# Altium schematic symbol library AmpClick.SchLib: 19 symbols
Pins are listed as number, name and electrical type; pins without a type are passive.

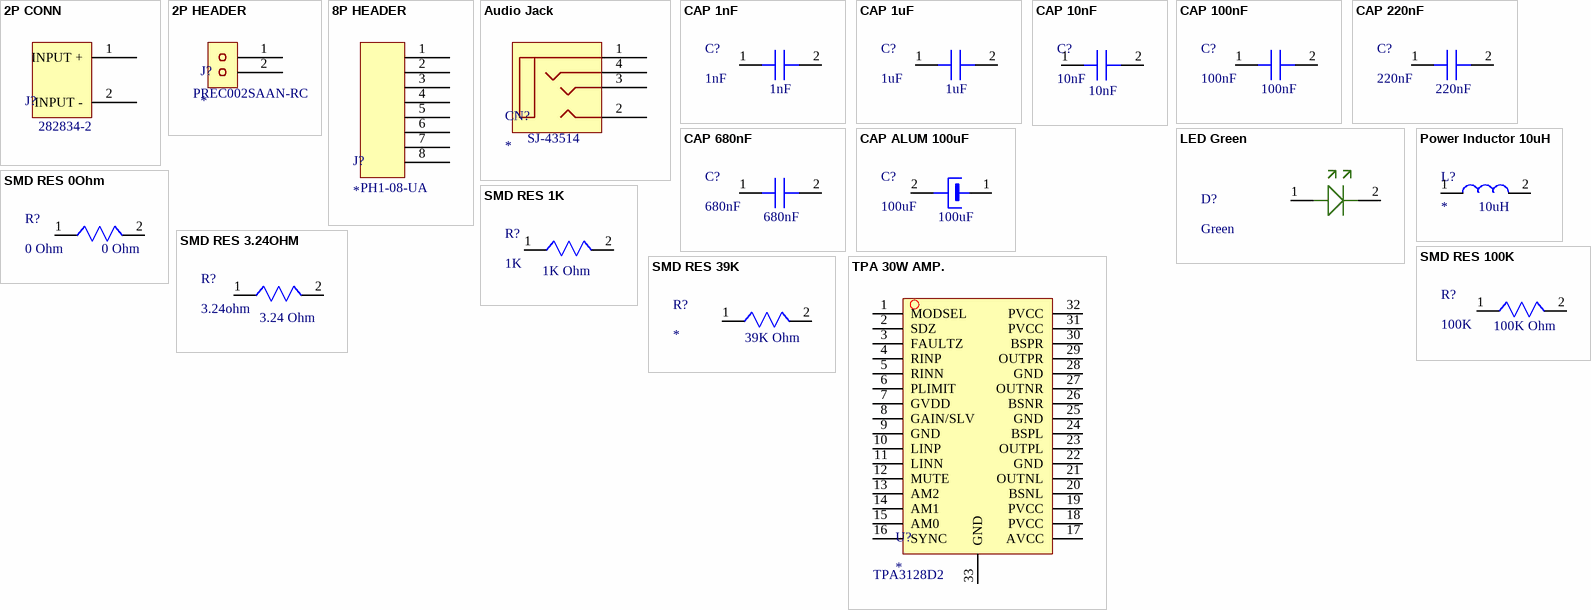
[diagram p0: symbols 2P CONN to TPA 30W AMP.]

## 2P CONN
designator J?  Order Number: 282834-2
2 Position Connector; Manufacturer: TE Connectivity AMP Connectors; Price: $1.85; Mounting Type: Through Hole
footprint 2P CONN 2.54mm
pins: 1 INPUT +, 2 INPUT -

## 2P HEADER
designator J?  Order Number: PREC002SAAN-RC
2 Position Header; Manufacturer: Sullins Connector Solutions; Mounting Type: Through Hole; Price: $0.06
footprint 2POS HEADER
pins: 1 13, 2 14

## 8P HEADER
designator J?  Order Number: PH1-08-UA
8 Position Header; Manufacturer: Adam Tech; Price: $0.17; Mounting Type: Through Hole
footprint 8POS HEADER
pins: 1 5, 2 6, 3 7, 4 8, 5 9, 6 10, 7 11, 8 12

## Audio Jack
designator CN?  Order Number: SJ-43514
4 Pin Conductor Audio Jack; Manufacturer: CUI Devices; Mounting Type: SMD; Price: $1.06
footprint Audio Jack
pins: 1 5, 2 8, 3 7, 4 6

## CAP 1nF
designator C?, comment 1nF
Capacitor; Manufacturer: Kemet; Order Number: C0603C102K3RACTU; Price: $0.10; Mounting Type: SMD-0603; Value: 1nF
footprint CAP 1nF
pins: 1 PVCC, 2 PVCC

## CAP 1uF
designator C?, comment 1uF
Capacitor; Manufacturer: Murata Electronics; Order Number: GRM21BR71C105KA01L; Price: $0.19; Mounting Type: SMD-0805; Value: 1uF
footprint CAP 1uF
pins: 1 PVCC, 2 PVCC

## CAP 10nF
designator C?, comment 10nF
Capacitor; Manufacturer: Samsung; Order Number: CL10B103JB8NNNC; Price: $0.1; Mounting Type: SMD-0603; Value: 10nF
footprint CAP 10nF
pins: 1 PVCC, 2 PVCC

## CAP 100nF
designator C?, comment 100nF
Capacitor; Manufacturer: Samsung; Order Number: CL10B104KO8NNNC; Price: $0.10; Mounting Type: SMD-0603; Value: 100nF
footprint CAP 100nF
pins: 1 PVCC, 2 PVCC

## CAP 220nF
designator C?, comment 220nF
Capacitor; Manufacturer: Samsung; Order Number: CL21B224KBFSFNE; Price: $0.1; Mounting Type: SMD-0805; Value: 220nF
footprint CAP 220nF
pins: 1 PVCC, 2 PVCC

## CAP 680nF
designator C?, comment 680nF
Capacitor; Manufacturer: KEMET; Order Number: C0805C684K5REC7210; Price: $0.28; Mounting Type: SMD-0805; Value: 680nF
footprint CAP 680nF
pins: 1 PVCC, 2 PVCC

## CAP ALUM 100uF
designator C?, comment 100uF
Capacitor; Manufacturer: Vishay / BC Components; Order Number: MAL215099702E3; Price: $2.25; Mounting Type: SMD; Value: 100uF
footprint CAP ALUM 100uF
pins: 1 PVCC, 2 PVCC

## LED Green
designator D?, comment Green
LED Green; Manufacturer: Everlight Electronics Co Ltd; Order Number: QTLP601C4TR; Price: $0.34; Mounting Type: SMD-0603
footprint LED Green
pins: 1 PVCC, 2 PVCC

## Power Inductor 10uH
designator L?  value 10uH
Inductor; Manufacturer: Chilisin Electronics Corp.; Order Number: BWVS00505040100M00; Price: $0,18; Mounting Type: SMD
footprint Power Inductor
pins: 1 15, 2

## SMD RES 0Ohm
designator R?, comment 0 Ohm
Resistor; Manufacturer: Panasonic Electronic; Order Number: ERJ-6GEY0R00V; Price: $0.10; Mounting Type: SMD 0805; Value: 0 Ohm
footprint SMD RES 0Ohm
pins: 1 0, 2 1

## SMD RES 1K
designator R?, comment 1K  value 1K Ohm
Resistor; Manufacturer: Panasonic Electronic; Order Number: ERJ-6ENF1001V; Price: $0.10; Mounting Type: SMD-0805
footprint SMD RES 1K
pins: 1 0, 2 1

## SMD RES 3.24OHM
designator R?, comment 3.24ohm  value 3.24 Ohm
Resistor; Manufacturer: Vishay Dale; Order Number: CRCW08053R24FKEA; Price: $0.10; Mounting Type: SMD-0805
footprint SMD RES 3.24ohm
pins: 1 0, 2 1

## SMD RES 39K
designator R?  value 39K Ohm
Resistor; Manufacturer: Panasonic Electronic; Order Number: ERJ-6ENF3902V; Price: $0.10; Mounting Type: SMD-0805
footprint SMD RES 39K
pins: 1 0, 2 1

## SMD RES 100K
designator R?, comment 100K  value 100K Ohm
Resistor; Manufacturer: Panasonic Electronic; Order Number: ERJ-6ENF1003V; Price: $0.10; Mounting Type: SMD-0805
footprint SMD RES 100K
pins: 1 0, 2 1

## TPA 30W AMP.
designator U?  Order Number: TPA3128D2
TPA 2x30W IC; Manufacturer: Texas Instruments; Price: $3.34; Mounting Type: SMD
footprint TPA 30W AMP.
pins: 1 MODSEL, 2 SDZ, 3 FAULTZ, 4 RINP, 5 RINN, 6 PLIMIT, 7 GVDD, 8 GAIN/SLV, 9 GND, 10 LINP, 11 LINN, 12 MUTE, 13 AM2, 14 AM1, 15 AM0, 16 SYNC, 17 AVCC, 18 PVCC, 19 PVCC, 20 BSNL, 21 OUTNL, 22 GND, 23 OUTPL, 24 BSPL, 25 GND, 26 BSNR, 27 OUTNR, 28 GND, 29 OUTPR, 30 BSPR, 31 PVCC, 32 PVCC, 33 GND